# Altium schematic symbol library SCA103T.Schlib: 1 symbol
Pins are listed as number, name and electrical type; pins without a type are passive.

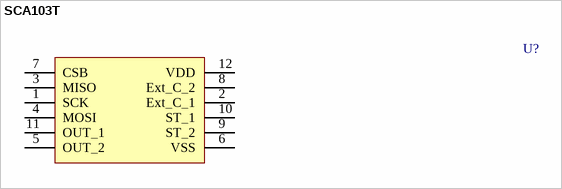
[diagram p0: symbol SCA103T]

## SCA103T
designator U?
IC, Inclinometer
pins: 1 SCK, 2 Ext_C_1, 3 MISO, 4 MOSI, 5 OUT_2, 6 VSS, 7 CSB, 8 Ext_C_2, 9 ST_2, 10 ST_1, 11 OUT_1, 12 VDD
1 alternate drawing of the same symbol